# EAGLE library part 615096243321 (library Wurth_Elektronik_Electromechanic_Input-Output_Connectors_rev16b)
WR-MJ Horizontal Shielded 2 x 6 Stacked Port with EMI Panel Finger 8P8C Modular Jack Tab Up & Down, 96 Pins=>Code : Con_I-O_MJ-H_Shielded_Up-Down_615096243321 <http://katalog.we-online.de/media/images/eican/Con_I-O_MJ-H_Shielded_Up-Down_615096243321_pf2.jpg> Details see: http://katalog.we-online.de/en/em/615_096_243_321 Created 2014-07-10, Karrer Zheng 2014 (C) Würth Elektronik
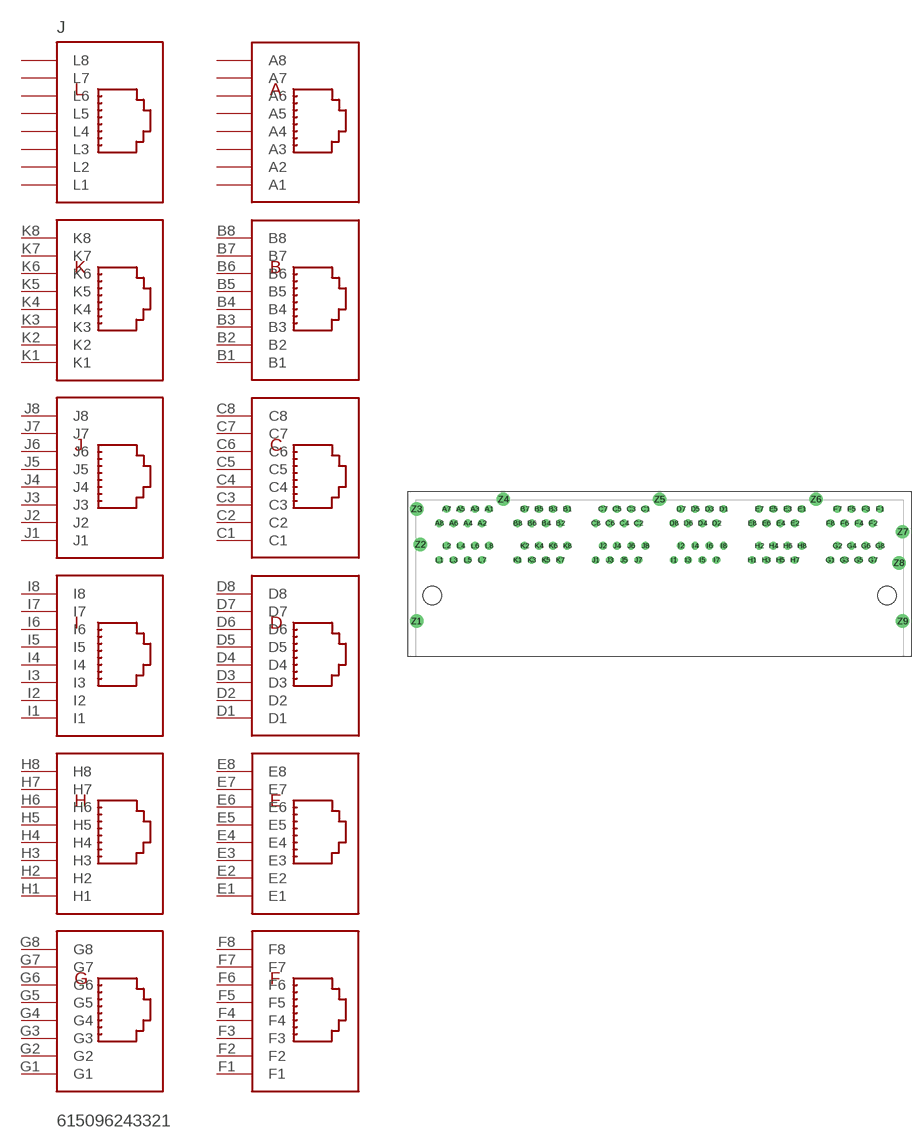
[diagram p139: symbol with the pads of 615096243321; footprint 615096243321]

Designator prefix J

## 615096243321  [615096243321]
A1  A1  pas
A2  A2  pas
A3  A3  pas
A4  A4  pas
A5  A5  pas
A6  A6  pas
A7  A7  pas
A8  A8  pas
B1  B1  pas
B2  B2  pas
B3  B3  pas
B4  B4  pas
B5  B5  pas
B6  B6  pas
B7  B7  pas
B8  B8  pas
C1  C1  pas
C2  C2  pas
C3  C3  pas
C4  C4  pas
C5  C5  pas
C6  C6  pas
C7  C7  pas
C8  C8  pas
D1  D1  pas
D2  D2  pas
D3  D3  pas
D4  D4  pas
D5  D5  pas
D6  D6  pas
D7  D7  pas
D8  D8  pas
E1  E1  pas
E2  E2  pas
E3  E3  pas
E4  E4  pas
E5  E5  pas
E6  E6  pas
E7  E7  pas
E8  E8  pas
F1  F1  pas
F2  F2  pas
F3  F3  pas
F4  F4  pas
F5  F5  pas
F6  F6  pas
F7  F7  pas
F8  F8  pas
G1  G1  pas
G2  G2  pas
G3  G3  pas
G4  G4  pas
G5  G5  pas
G6  G6  pas
G7  G7  pas
G8  G8  pas
H1  H1  pas
H2  H2  pas
H3  H3  pas
H4  H4  pas
H5  H5  pas
H6  H6  pas
H7  H7  pas
H8  H8  pas
I1  I1  pas
I2  I2  pas
I3  I3  pas
I4  I4  pas
I5  I5  pas
I6  I6  pas
I7  I7  pas
I8  I8  pas
J1  J1  pas
J2  J2  pas
J3  J3  pas
J4  J4  pas
J5  J5  pas
J6  J6  pas
J7  J7  pas
J8  J8  pas
K1  K1  pas
K2  K2  pas
K3  K3  pas
K4  K4  pas
K5  K5  pas
K6  K6  pas
K7  K7  pas
K8  K8  pas
L1  L1  pas
L2  L2  pas
L3  L3  pas
L4  L4  pas
L5  L5  pas
L6  L6  pas
L7  L7  pas
L8  L8  pas

## Footprint 615096243321 (pad centres in mm)
WR-MJ Horizontal Shielded 2 x 6 Stacked Port with EMI Panel Finger 8P8C Modular Jack Tab Up & Down, 96 Pins
drill 0.89: A1 -30.48,0.865; A2 -31.75,-1.675; A3 -33.02,0.865; A4 -34.29,-1.675; A5 -35.56,0.865; A6 -36.83,-1.675; A7 -38.1,0.865; A8 -39.37,-1.675; B1 -16.51,0.865; B2 -17.78,-1.675; B3 -19.05,0.865; B4 -20.32,-1.675; B5 -21.59,0.865; B6 -22.86,-1.675; B7 -24.13,0.865; B8 -25.4,-1.675; C1 -2.54,0.865; C2 -3.81,-1.675; C3 -5.08,0.865; C4 -6.35,-1.675; C5 -7.62,0.865; C6 -8.89,-1.675; C7 -10.16,0.865; C8 -11.43,-1.675; D1 11.43,0.865; D2 10.16,-1.675; D3 8.89,0.865; D4 7.62,-1.675; D5 6.35,0.865; D6 5.08,-1.675; D7 3.81,0.865; D8 2.54,-1.675; E1 25.4,0.865; E2 24.13,-1.675; E3 22.86,0.865; E4 21.59,-1.675; E5 20.32,0.865; E6 19.05,-1.675; E7 17.78,0.865; E8 16.51,-1.675; F1 39.37,0.865; F2 38.1,-1.675; F3 36.83,0.865; F4 35.56,-1.675; F5 34.29,0.865; F6 33.02,-1.675; F7 31.75,0.865; F8 30.48,-1.675; G1 30.48,-8.255; G2 31.75,-5.715; G3 33.02,-8.255; G4 34.29,-5.715; G5 35.56,-8.255; G6 36.83,-5.715; G7 38.1,-8.255; G8 39.37,-5.715; H1 16.51,-8.255; H2 17.78,-5.715; H3 19.05,-8.255; H4 20.32,-5.715; H5 21.59,-8.255; H6 22.86,-5.715; H7 24.13,-8.255; H8 25.4,-5.715; I1 2.54,-8.255; I2 3.81,-5.715; I3 5.08,-8.255; I4 6.35,-5.715; I5 7.62,-8.255; I6 8.89,-5.715; I7 10.16,-8.255; I8 11.43,-5.715; J1 -11.43,-8.255; J2 -10.16,-5.715; J3 -8.89,-8.255; J4 -7.62,-5.715; J5 -6.35,-8.255; J6 -5.08,-5.715; J7 -3.81,-8.255; J8 -2.54,-5.715; K1 -25.4,-8.255; K2 -24.13,-5.715; K3 -22.86,-8.255; K4 -21.59,-5.715; K5 -20.32,-8.255; K6 -19.05,-5.715; K7 -17.78,-8.255; K8 -16.51,-5.715; L1 -39.37,-8.255; L2 -38.1,-5.715; L3 -36.83,-8.255; L4 -35.56,-5.715; L5 -34.29,-8.255; L6 -33.02,-5.715; L7 -31.75,-8.255; L8 -30.48,-5.715
drill 1.6: Z1 -43.435,-19.175; Z2 -42.76,-5.465; Z3 -43.435,0.865; Z4 -27.94,2.595; Z5 0,2.595; Z6 27.94,2.595; Z7 43.435,-3.205; Z8 42.76,-8.765; Z9 43.435,-19.175
hole 3.25 at -40.64,-14.605
hole 3.25 at 40.64,-14.605